# EAGLE library part AP3409DNTR-G1 (library Diodes)
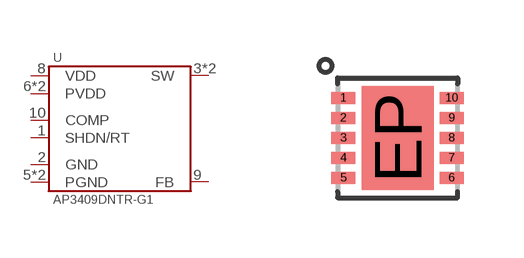
[diagram p0: symbol with the pads of UDFN-10; footprint UDFN-10]

Designator prefix U

## AP3409DNTR-G1  [UDFN-10]
1  SHDN/RT
2  GND
3  SW
4  SW
5  PGND
6  PVDD
7  PVDD
8  VDD
9  FB
10  COMP
EP  PGND

## Footprint UDFN-10 (pad centres in mm)
smd 0.6 x 0.3: 1 -1.355,1; 2 -1.355,0.5; 3 -1.355,0; 4 -1.355,-0.5; 5 -1.355,-1; 6 1.355,-1; 7 1.355,-0.5; 8 1.355,0; 9 1.355,0.5; 10 1.355,1
smd 1.8 x 2.6: EP 0,0